# EAGLE library part PCM3060PW (library jhbruhn-dac)
24-bit Asynchronous Stereo Audio Codec with 96/192kHz sampling rate Source: Datasheet <http://componentsearchengine.com/Datasheets/1/PCM3060PW.pdf>
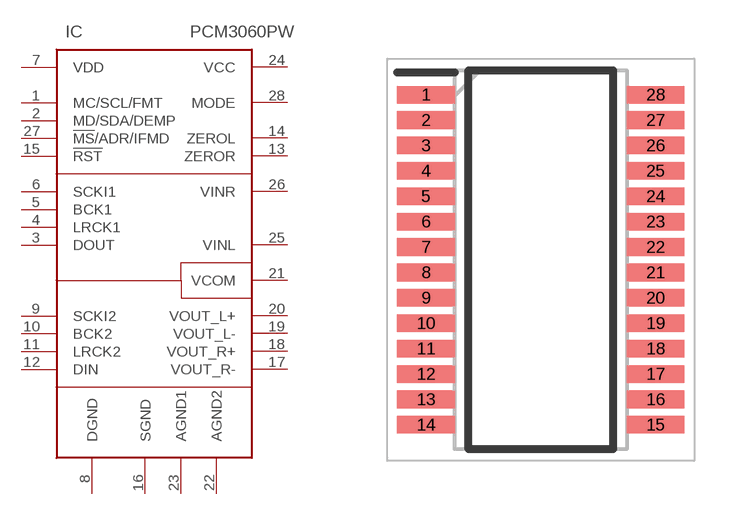
[diagram p4: symbol with the pads of SOP65P640X120-28N; footprint SOP65P640X120-28N]

Designator prefix IC

## PCM3060PW (ARROW_PART_NUMBER: PCM3060PW; ARROW_PRICE-STOCK: https://www.arrow.com/en/products/pcm3060pw/texas-instruments; DESCRIPTION: 24-bit Asynchronous Stereo Audio Codec with 96/192kHz sampling rate; HEIGHT: 1.2mm; MANUFACTURER_NAME: Texas Instruments; MANUFACTURER_PART_NUMBER: PCM3060PW; MOUSER_PART_NUMBER: 595-PCM3060PW; MOUSER_PRICE-STOCK: https://www.mouser.co.uk/ProductDetail/Texas-Instruments/PCM3060PW?qs=W5eanQMd1BDLVsOltr0iFA%3D%3D)  [SOP65P640X120-28N]
1  MC/SCL/FMT
2  MD/SDA/DEMP
3  DOUT
4  LRCK1
5  BCK1
6  SCKI1
7  VDD
8  DGND
9  SCKI2
10  BCK2
11  LRCK2
12  DIN
13  ZEROR
14  ZEROL
15  !RST
16  SGND
17  VOUT_R-
18  VOUT_R+
19  VOUT_L-
20  VOUT_L+
21  VCOM
22  AGND2
23  AGND1
24  VCC
25  VINL
26  VINR
27  !MS!/ADR/IFMD
28  MODE

## Footprint SOP65P640X120-28N (pad centres in mm)
TSSOP28__
smd 1.475 x 0.45: 1 -2.938,4.225; 2 -2.938,3.575; 3 -2.938,2.925; 4 -2.938,2.275; 5 -2.938,1.625; 6 -2.938,0.975; 7 -2.938,0.325; 8 -2.938,-0.325; 9 -2.938,-0.975; 10 -2.938,-1.625; 11 -2.938,-2.275; 12 -2.938,-2.925; 13 -2.938,-3.575; 14 -2.938,-4.225; 15 2.938,-4.225; 16 2.938,-3.575; 17 2.938,-2.925; 18 2.938,-2.275; 19 2.938,-1.625; 20 2.938,-0.975; 21 2.938,-0.325; 22 2.938,0.325; 23 2.938,0.975; 24 2.938,1.625; 25 2.938,2.275; 26 2.938,2.925; 27 2.938,3.575; 28 2.938,4.225